# EAGLE library part 535512-12_S (library con-tyco-modu)
RECEPTACAL
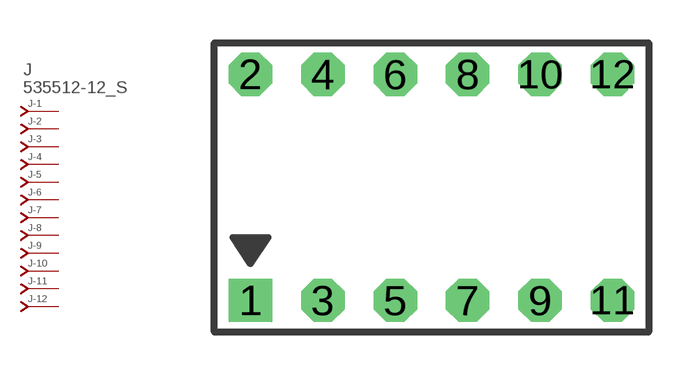
[diagram p18: symbol with the pads of 535512-12; footprint 535512-12]

Designator prefix J; gates -1=J-NV -2=J-N -3=J-N -4=J-N -5=J-N -6=J-N -7=J-N -8=J-N -9=J-N -10=J-N -11=J-N -12=J-N

## 535512-12_S  [535512-12]
1  -1:J  pas
2  -2:J  pas
3  -3:J  pas
4  -4:J  pas
5  -5:J  pas
6  -6:J  pas
7  -7:J  pas
8  -8:J  pas
9  -9:J  pas
10  -10:J  pas
11  -11:J  pas
12  -12:J  pas

## Footprint 535512-12 (pad centres in mm)
AMPMODU - 535512 Series
drill 1.016 square: 1 -6.35,0
drill 1.016 octagon: 2 -6.35,7.938; 3 -3.81,0; 4 -3.81,7.938; 5 -1.27,0; 6 -1.27,7.938; 7 1.27,0; 8 1.27,7.938; 9 3.81,0; 10 3.81,7.938; 11 6.35,0; 12 6.35,7.938